# Altium schematic symbol library LD39200.SchLib: 1 symbol
Pins are listed as number, name and electrical type; pins without a type are passive.

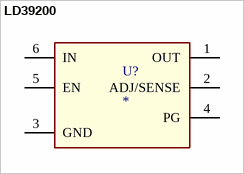
[diagram p0: symbol LD39200]

## LD39200
designator U?
2 A high PSRR ultra low drop linear regulator with reverse current protection
footprint DFN6 (DFN6 (3 x 3 mm))
pins: 1 OUT, 2 ADJ/SENSE, 3 GND, 4 PG, 5 EN, 6 IN